# Altium schematic symbol library IR2117S.SchLib: 1 symbol
Pins are listed as number, name and electrical type; pins without a type are passive.

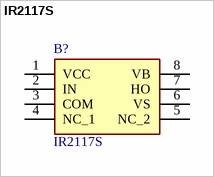
[diagram p0: symbol IR2117S]

## IR2117S
designator B?
Single channel driver, 8-lead SOIC; Manufacturer_Name: Infineon; Geometry.Height: 1.75mm; Manufacturer_Part_Number: IR2117S; Mouser Part Number: *; Mouser Price/Stock: *; Arrow Part Number: *; Arrow Price/Stock: *; Datasheet Link: http://www.infineon.com/dgdl/ir2117.pdf?fileId=5546d462533600a4015355c84331168d
footprint SOIC127P600X175-8N
pins: 1 VCC, 2 IN, 3 COM, 4 NC_1, 5 NC_2, 6 VS, 7 HO, 8 VB